# Altium schematic symbol library MountingPin.SchLib: 2 symbols
Pins are listed as number, name and electrical type; pins without a type are passive.

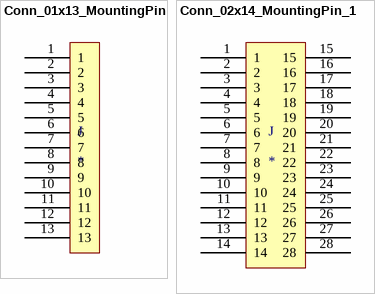
[diagram p0: symbols Conn_01x13_MountingPin to Conn_02x14_MountingPin_1]

## Conn_01x13_MountingPin
designator J
pins: 1, 2, 3, 4, 5, 6, 7, 8, 9, 10, 11, 12, 13

## Conn_02x14_MountingPin_1
designator J
pins: 1, 2, 3, 4, 5, 6, 7, 8, 9, 10, 11, 12, 13, 14, 15, 16, 17, 18, 19, 20, 21, 22, 23, 24, 25, 26, 27, 28